# Altium schematic symbol library 74HC244.Schlib: 1 symbol
Pins are listed as number, name and electrical type; pins without a type are passive.

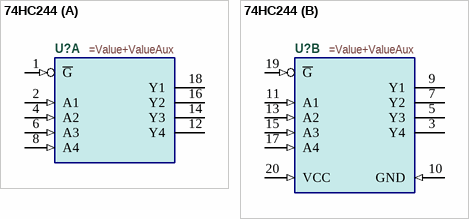
[diagram p0: symbol 74HC244]

## 74HC244
designator U?
=Description
part A pins: 1 ~{G} (in), 2 A1 (in), 4 A2 (in), 6 A3 (in), 8 A4 (in), 12 Y4 (hiz), 14 Y3 (hiz), 16 Y2 (hiz), 18 Y1 (hiz)
part B pins: 3 Y4 (hiz), 5 Y3 (hiz), 7 Y2 (hiz), 9 Y1 (hiz), 10 GND (in), 11 A1 (in), 13 A2 (in), 15 A3 (in), 17 A4 (in), 19 ~{G} (in), 20 VCC (in)